# EAGLE library part PINHEAD_1X11 (library pinhead)
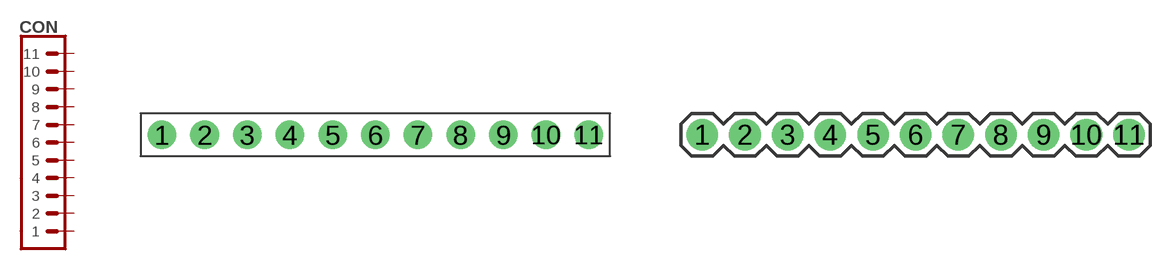
[diagram p14: symbol with the pads of 1X11-PTH-2.54-FEMALE; footprints 1X11-PTH-2.54-FEMALE, 1X11-PTH-2.54]

Designator prefix CON

## PINHEAD_1X11-2.54_STRAIGHT_FEMALE  [1X11-PTH-2.54-FEMALE]
1  1  pas
2  2  pas
3  3  pas
4  4  pas
5  5  pas
6  6  pas
7  7  pas
8  8  pas
9  9  pas
10  10  pas
11  11  pas

## PINHEAD_1X11-2.54_STRAIGHT_MALE  [1X11-PTH-2.54]
Pads as for 1X11-PTH-2.54-FEMALE

## Footprint 1X11-PTH-2.54-FEMALE (pad centres in mm)
drill 1 pad 1.7: 1 -12.7,0; 2 -10.16,0; 3 -7.62,0; 4 -5.08,0; 5 -2.54,0; 6 0,0; 7 2.54,0; 8 5.08,0; 9 7.62,0; 10 10.16,0; 11 12.7,0

## Footprint 1X11-PTH-2.54 (pad centres in mm)
drill 1 pad 1.88: 1 -12.7,0; 2 -10.16,0; 3 -7.62,0; 4 -5.08,0; 5 -2.54,0; 6 0,0; 7 2.54,0; 8 5.08,0; 9 7.62,0; 10 10.16,0; 11 12.7,0